# Altium footprint library HL7588.PcbLib: 2 footprints
Each footprint in its own frame and in the unit in brackets; x right, y up, seen from the top. Pads: shape width x height; smd on the part's side, far side on the other; paste and mask are expansions set on the pad; w line width, h text height; cw(c..) or ccw(c..) is an arc to the next point about the centre after c.
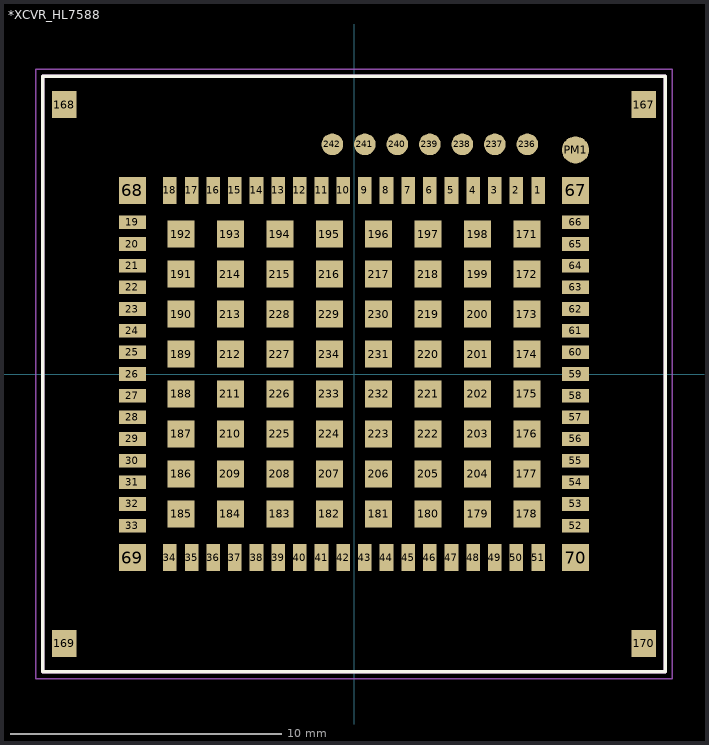
[diagram p0: the footprints below, top view; thin cyan lines are the x and y axes]

## *XCVR_HL7588 [mm]
pads (146):
  rect 0.5x1 smd: 1(6.8,6.78) 2(6,6.78) 3(5.2,6.78) 4(4.4,6.78) 5(3.6,6.78) 6(2.8,6.78) 7(2,6.78) 8(1.2,6.78) 9(0.4,6.78) 10(-0.4,6.78) 11(-1.2,6.78) 12(-2,6.78) 13(-2.8,6.78) 14(-3.6,6.78) 15(-4.4,6.78) 16(-5.2,6.78) 17(-6,6.78) 18(-6.8,6.78) 34(-6.8,-6.78) 35(-6,-6.78) 36(-5.2,-6.78) 37(-4.4,-6.78) 38(-3.6,-6.78) 39(-2.8,-6.78) 40(-2,-6.78) 41(-1.2,-6.78) 42(-0.4,-6.78) 43(0.4,-6.78) 44(1.2,-6.78) 45(2,-6.78) 46(2.8,-6.78) 47(3.6,-6.78) 48(4.4,-6.78) 49(5.2,-6.78) 50(6,-6.78) 51(6.8,-6.78)
  rect 1x0.5 smd: 19(-8.18,5.6) 20(-8.18,4.8) 21(-8.18,4) 22(-8.18,3.2) 23(-8.18,2.4) 24(-8.18,1.6) 25(-8.18,0.8) 26(-8.18,0) 27(-8.18,-0.8) 28(-8.18,-1.6) 29(-8.18,-2.4) 30(-8.18,-3.2) 31(-8.18,-4) 32(-8.18,-4.8) 33(-8.18,-5.6) 52(8.18,-5.6) 53(8.18,-4.8) 54(8.18,-4) 55(8.18,-3.2) 56(8.18,-2.4) 57(8.18,-1.6) 58(8.18,-0.8) 59(8.18,0) 60(8.18,0.8) 61(8.18,1.6) 62(8.18,2.4) 63(8.18,3.2) 64(8.18,4) 65(8.18,4.8) 66(8.18,5.6)
  rect 1x1 smd: 67(8.18,6.78) 68(-8.18,6.78) 69(-8.18,-6.78) 70(8.18,-6.78) 171(6.388,5.162) 172(6.388,3.688) 173(6.388,2.213) 174(6.388,0.737) 175(6.388,-0.737) 176(6.388,-2.213) 177(6.388,-3.688) 178(6.388,-5.162) 179(4.563,-5.162) 180(2.738,-5.162) 181(0.913,-5.162) 182(-0.913,-5.162) 183(-2.738,-5.162) 184(-4.563,-5.162) 185(-6.388,-5.162) 186(-6.388,-3.688) 187(-6.388,-2.213) 188(-6.388,-0.737) 189(-6.388,0.737) 190(-6.388,2.213) 191(-6.388,3.688) 192(-6.388,5.162) 193(-4.563,5.162) 194(-2.738,5.162) 195(-0.913,5.162) 196(0.913,5.162) 197(2.738,5.162) 198(4.563,5.162) 199(4.563,3.688) 200(4.563,2.213) 201(4.563,0.737) 202(4.563,-0.737) 203(4.563,-2.213) 204(4.563,-3.688) 205(2.738,-3.688) 206(0.913,-3.688) 207(-0.913,-3.688) 208(-2.738,-3.688) 209(-4.563,-3.688) 210(-4.563,-2.213) 211(-4.563,-0.737) 212(-4.563,0.737) 213(-4.563,2.213) 214(-4.563,3.688) 215(-2.738,3.688) 216(-0.913,3.688) 217(0.913,3.688) 218(2.738,3.688) 219(2.738,2.213) 220(2.738,0.737) 221(2.738,-0.737) 222(2.738,-2.213) 223(0.913,-2.213) 224(-0.913,-2.213) 225(-2.738,-2.213) 226(-2.738,-0.737) 227(-2.738,0.737) 228(-2.738,2.213) 229(-0.913,2.213) 230(0.913,2.213) 231(0.913,0.737) 232(0.913,-0.737) 233(-0.913,-0.737) 234(-0.913,0.737)
  rect 0.9x1 smd: 167(10.7,9.95) 168(-10.7,9.95) 169(-10.7,-9.95) 170(10.7,-9.95)
  round 0.8 smd: 236(6.4,8.48) 237(5.2,8.48) 238(4,8.48) 239(2.8,8.48) 240(1.6,8.48) 241(0.4,8.48) 242(-0.8,8.48)
  round 1 smd: PM1(8.18,8.275)
Top Overlay:
  lines w0.127: -11.5,-11 -11.5,11 11.5,11 11.5,-11 -11.5,-11
Top Paste:
  drawing of 289 lines, arcs and shapes, not listed
Mechanical 4:
  lines w0.127: -11.5,-11 -11.5,11 ; -11.5,-11 11.5,-11 ; -11.5,-11 -11.5,11 ; -11.5,-11 11.5,-11 ; -11.5,11 11.5,11 ; -11.5,11 11.5,11 ; 11.5,-11 11.5,11 ; 11.5,-11 11.5,11
Mechanical 16:
  lines w0.05: -11.75,-11.25 -11.75,11.25 11.75,11.25 11.75,-11.25 -11.75,-11.25

## PCBComponent_1 [mm]